# EAGLE library part HEADER-02X003-2_54MM (library FlashPCB_Connectors)
Header 2x3 - Header Vertical 2x3POS 2.54MM Technical Specifications: Pitch: 0.1" (2.54mm) Rows: 2
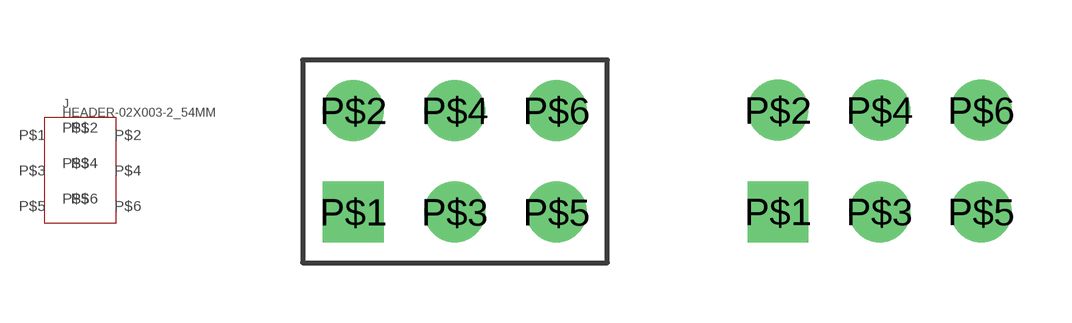
[diagram p6: symbol with the pads of HEADER-THT-02X003-2_54MM; footprints HEADER-THT-02X003-2_54MM, HEADER-THT-NOSILK-02X003-2_54MM]

Designator prefix J

## HEADER-02X003-2_54MMSTANDARD  [HEADER-THT-02X003-2_54MM]
P$1  P$1
P$2  P$2
P$3  P$3
P$4  P$4
P$5  P$5
P$6  P$6

## HEADER-02X003-2_54MMSTANDARD_NOSILK  [HEADER-THT-NOSILK-02X003-2_54MM]
Pads as for HEADER-THT-02X003-2_54MM

## Footprint HEADER-THT-02X003-2_54MM (pad centres in mm)
drill 1.016 square: P$1 0,0
drill 1.016: P$2 0,2.54; P$3 2.54,0; P$4 2.54,2.54; P$5 5.08,0; P$6 5.08,2.54

## Footprint HEADER-THT-NOSILK-02X003-2_54MM (pad centres in mm)
drill 1.016 square: P$1 0,0
drill 1.016: P$2 0,2.54; P$3 2.54,0; P$4 2.54,2.54; P$5 5.08,0; P$6 5.08,2.54